# Altium schematic symbol library 元件.SchLib: 6 symbols
Pins are listed as number, name and electrical type; pins without a type are passive.

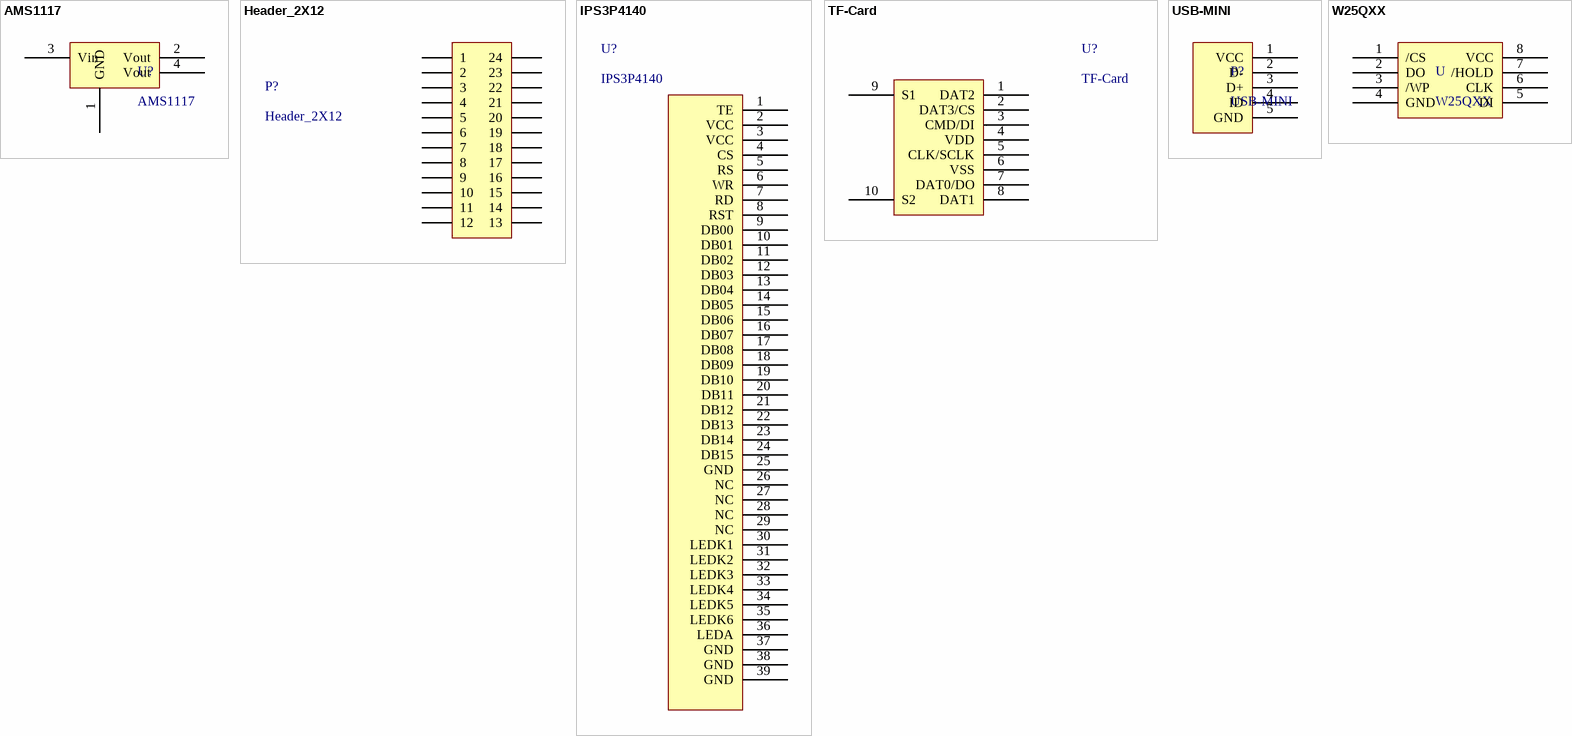
[diagram p0: symbols AMS1117 to W25QXX]

## AMS1117
designator U?
稳压IC
footprint SOT223
pins: 1 GND, 2 Vout (power), 3 Vin, 4 Vout

## Header_2X12
designator P?
footprint HDR2X12
pins: 1, 2, 3, 4, 5, 6, 7, 8, 9, 10, 11, 12, 13, 14, 15, 16, 17, 18, 19, 20, 21, 22, 23, 24

## IPS3P4140
designator U?
IPS液晶显示屏
footprint FH26-39S-0.3SHW
pins: 1 TE, 2 VCC, 3 VCC, 4 CS, 5 RS, 6 WR, 7 RD, 8 RST, 9 DB00, 10 DB01, 11 DB02, 12 DB03, 13 DB04, 14 DB05, 15 DB06, 16 DB07, 17 DB08, 18 DB09, 19 DB10, 20 DB11, 21 DB12, 22 DB13, 23 DB14, 24 DB15, 25 GND, 26 NC, 27 NC, 28 NC, 29 NC, 30 LEDK1, 31 LEDK2, 32 LEDK3, 33 LEDK4, 34 LEDK5, 35 LEDK6, 36 LEDA, 37 GND, 38 GND, 39 GND

## TF-Card
designator U?
TF存储卡
footprint TF-Card
pins: 1 DAT2, 2 DAT3/CS, 3 CMD/DI, 4 VDD, 5 CLK/SCLK, 6 VSS, 7 DAT0/DO, 8 DAT1, 9 S1, 10 S2

## USB-MINI
designator P?
USB接口
footprint USB-MINI
pins: 1 VCC, 2 D-, 3 D+, 4 ID, 5 GND

## W25QXX
designator U
SPI-Flash
footprint SO-8
pins: 1 /CS, 2 DO, 3 /WP, 4 GND, 5 DI, 6 CLK, 7 /HOLD, 8 VCC